# Altium schematic symbol library NE5532.Schlib: 1 symbol
Pins are listed as number, name and electrical type; pins without a type are passive.

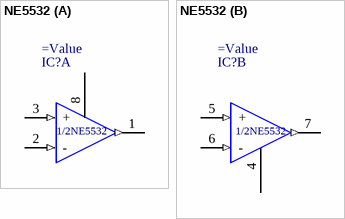
[diagram p0: symbol NE5532]

## NE5532
designator IC?
=Description
part A pins: 1 OUT (out), 2 - (in), 3 + (in), 8 VCC (power)
part B pins: 4 VDD (power), 5 + (in), 6 - (in), 7 Out (out)
part A text: 1/2NE5532
part B text: 1/2NE5532